# EAGLE library part SP3232EBEY-L (library SPS)
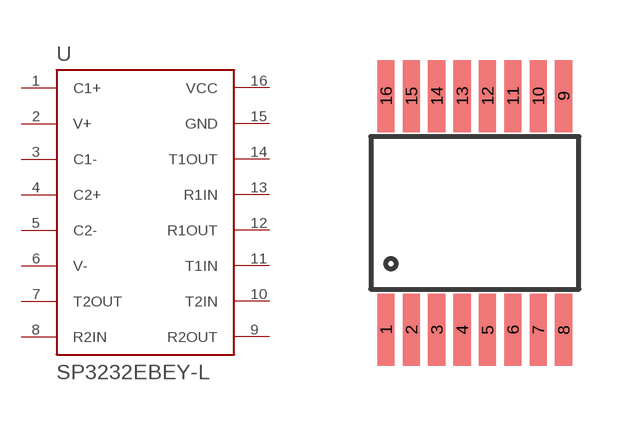
[diagram p5: symbol with the pads of TSSOP16; footprint TSSOP16]

Designator prefix -

## SP3232EBEY-L  [TSSOP16]
1  C1+
2  V+
3  C1-
4  C2+
5  C2-
6  V-
7  T2OUT
8  R2IN
9  R2OUT
10  T2IN
11  T1IN
12  R1OUT
13  R1IN
14  T1OUT
15  GND
16  VCC

## Footprint TSSOP16 (pad centres in mm)
smd 0.432 x 1.803: 1 -3.81,-2.54; 2 -3.175,-2.54; 3 -2.54,-2.54; 4 -1.905,-2.54; 5 -1.27,-2.54; 6 -0.635,-2.54; 7 0,-2.54; 8 0.635,-2.54; 9 0.635,3.302; 10 0,3.302; 11 -0.635,3.302; 12 -1.27,3.302; 13 -1.905,3.302; 14 -2.54,3.302; 15 -3.175,3.302; 16 -3.81,3.302